# Altium schematic symbol library MCU_ESP32-S3-WROOM.SchLib: 1 symbol
Pins are listed as number, name and electrical type; pins without a type are passive.

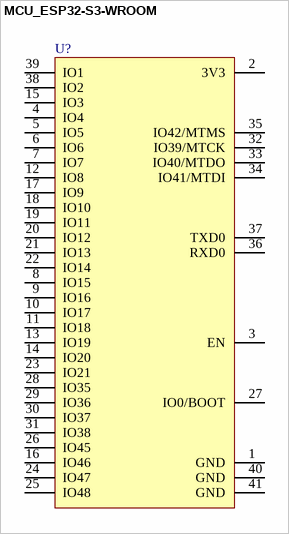
[diagram p0: symbol MCU_ESP32-S3-WROOM]

## MCU_ESP32-S3-WROOM
designator U?
pins: 1 GND (power), 2 3V3, 3 EN, 4 IO4, 5 IO5, 6 IO6, 7 IO7, 8 IO15, 9 IO16, 10 IO17, 11 IO18, 12 IO8, 13 IO19, 14 IO20, 15 IO3, 16 IO46, 17 IO9, 18 IO10, 19 IO11, 20 IO12, 21 IO13, 22 IO14, 23 IO21, 24 IO47, 25 IO48, 26 IO45, 27 IO0/BOOT, 28 IO35, 29 IO36, 30 IO37, 31 IO38, 32 IO39/MTCK, 33 IO40/MTDO, 34 IO41/MTDI, 35 IO42/MTMS, 36 RXD0, 37 TXD0, 38 IO2, 39 IO1, 40 GND (power), 41 GND (power)